# EAGLE library part FXAS21002CQR1 (library FXAS21002CQR1)
Gyroscopes 3axis MEMS Gyroscope Source: Datasheet <https://componentsearchengine.com/Datasheets/1/FXAS21002CQR1.pdf>
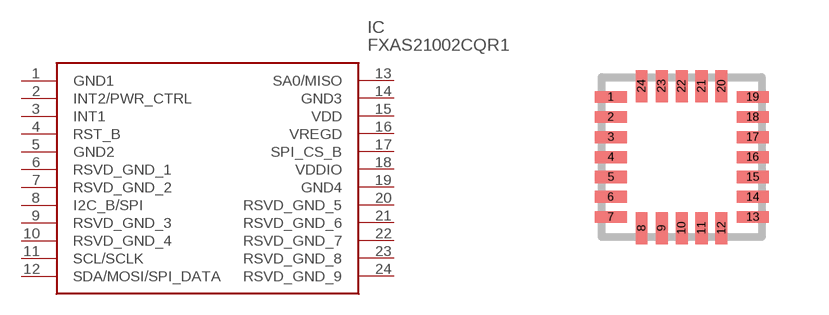
[diagram p0: symbol with the pads of FXAS21002CQR1; footprint FXAS21002CQR1]

Designator prefix IC

## FXAS21002CQR1 (Description: Gyroscopes 3axis MEMS Gyroscope; Height: mm; Manufacturer_Name: Nexperia; Manufacturer_Part_Number: FXAS21002CQR1; Mouser_Part_Number: 841-FXAS21002CQR1; Mouser_Price-Stock: https://www.mouser.com/Search/Refine.aspx?Keyword=841-FXAS21002CQR1)  [FXAS21002CQR1]
1  GND1  pwr
2  INT2/PWR_CTRL  in
3  INT1  in
4  RST_B  in
5  GND2  pwr
6  RSVD_GND_1  pwr
7  RSVD_GND_2  pwr
8  I2C_B/SPI
9  RSVD_GND_3  pwr
10  RSVD_GND_4  pwr
11  SCL/SCLK  in
12  SDA/MOSI/SPI_DATA
13  SA0/MISO
14  GND3  pwr
15  VDD  pwr
16  VREGD
17  SPI_CS_B  in
18  VDDIO  pwr
19  GND4  pwr
20  RSVD_GND_5  pwr
21  RSVD_GND_6  pwr
22  RSVD_GND_7  pwr
23  RSVD_GND_8  pwr
24  RSVD_GND_9  pwr

## Footprint FXAS21002CQR1 (pad centres in mm)
FXAS21002CQR1
smd 0.8 x 0.3: 1 -1.775,1.5; 2 -1.775,1; 3 -1.775,0.5; 4 -1.775,0; 5 -1.775,-0.5; 6 -1.775,-1; 7 -1.775,-1.5; 13 1.775,-1.5; 14 1.775,-1; 15 1.775,-0.5; 16 1.775,0; 17 1.775,0.5; 18 1.775,1; 19 1.775,1.5
smd 0.3 x 0.8: 8 -1,-1.775; 9 -0.5,-1.775; 10 0,-1.775; 11 0.5,-1.775; 12 1,-1.775; 20 1,1.775; 21 0.5,1.775; 22 0,1.775; 23 -0.5,1.775; 24 -1,1.775